# EAGLE library part POLOLU_A-STAR-MICRO_MIRROR (library will)
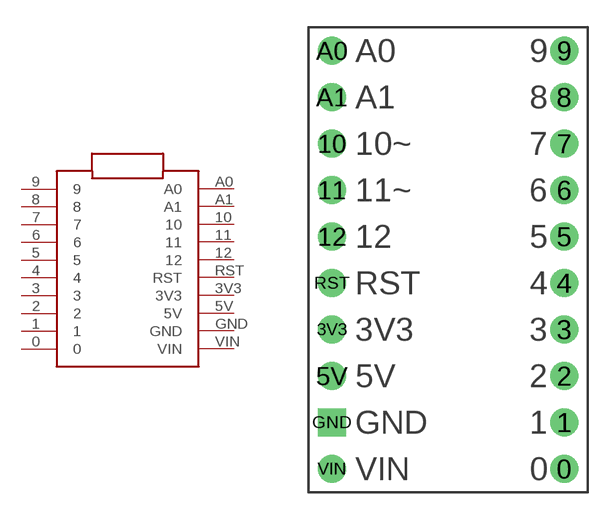
[diagram p0: symbol with the pads of POLOLU_A-STAR-MICRO_MIRROR; footprint POLOLU_A-STAR-MICRO_MIRROR]

Designator prefix -

## POLOLU_A-STAR-MICRO_MIRROR  [POLOLU_A-STAR-MICRO_MIRROR]
0  0
1  1
2  2
3  3
3V3  3V3
4  4
5  5
5V  5V
6  6
7  7
8  8
9  9
10  10
11  11
12  12
A0  A0
A1  A1
GND  GND
RST  RST
VIN  VIN

## Footprint POLOLU_A-STAR-MICRO_MIRROR (pad centres in mm)
drill 0.9 pad 1.524: 0 6.35,-11.43; 1 6.35,-8.89; 2 6.35,-6.35; 3 6.35,-3.81; 3V3 -6.35,-3.81; 4 6.35,-1.27; 5 6.35,1.27; 5V -6.35,-6.35; 6 6.35,3.81; 7 6.35,6.35; 8 6.35,8.89; 9 6.35,11.43; 10 -6.35,6.35; 11 -6.35,3.81; 12 -6.35,1.27; A0 -6.35,11.43; A1 -6.35,8.89; RST -6.35,-1.27; VIN -6.35,-11.43
drill 0.9 pad 1.524 square: GND -6.35,-8.89